# Altium footprint library Common.PcbLib: 39 footprints (part 2 of 3)
Each footprint in its own frame and in the unit in brackets; x right, y up, seen from the top. Pads: shape width x height; smd on the part's side, far side on the other; paste and mask are expansions set on the pad; w line width, h text height; cw(c..) or ccw(c..) is an arc to the next point about the centre after c.
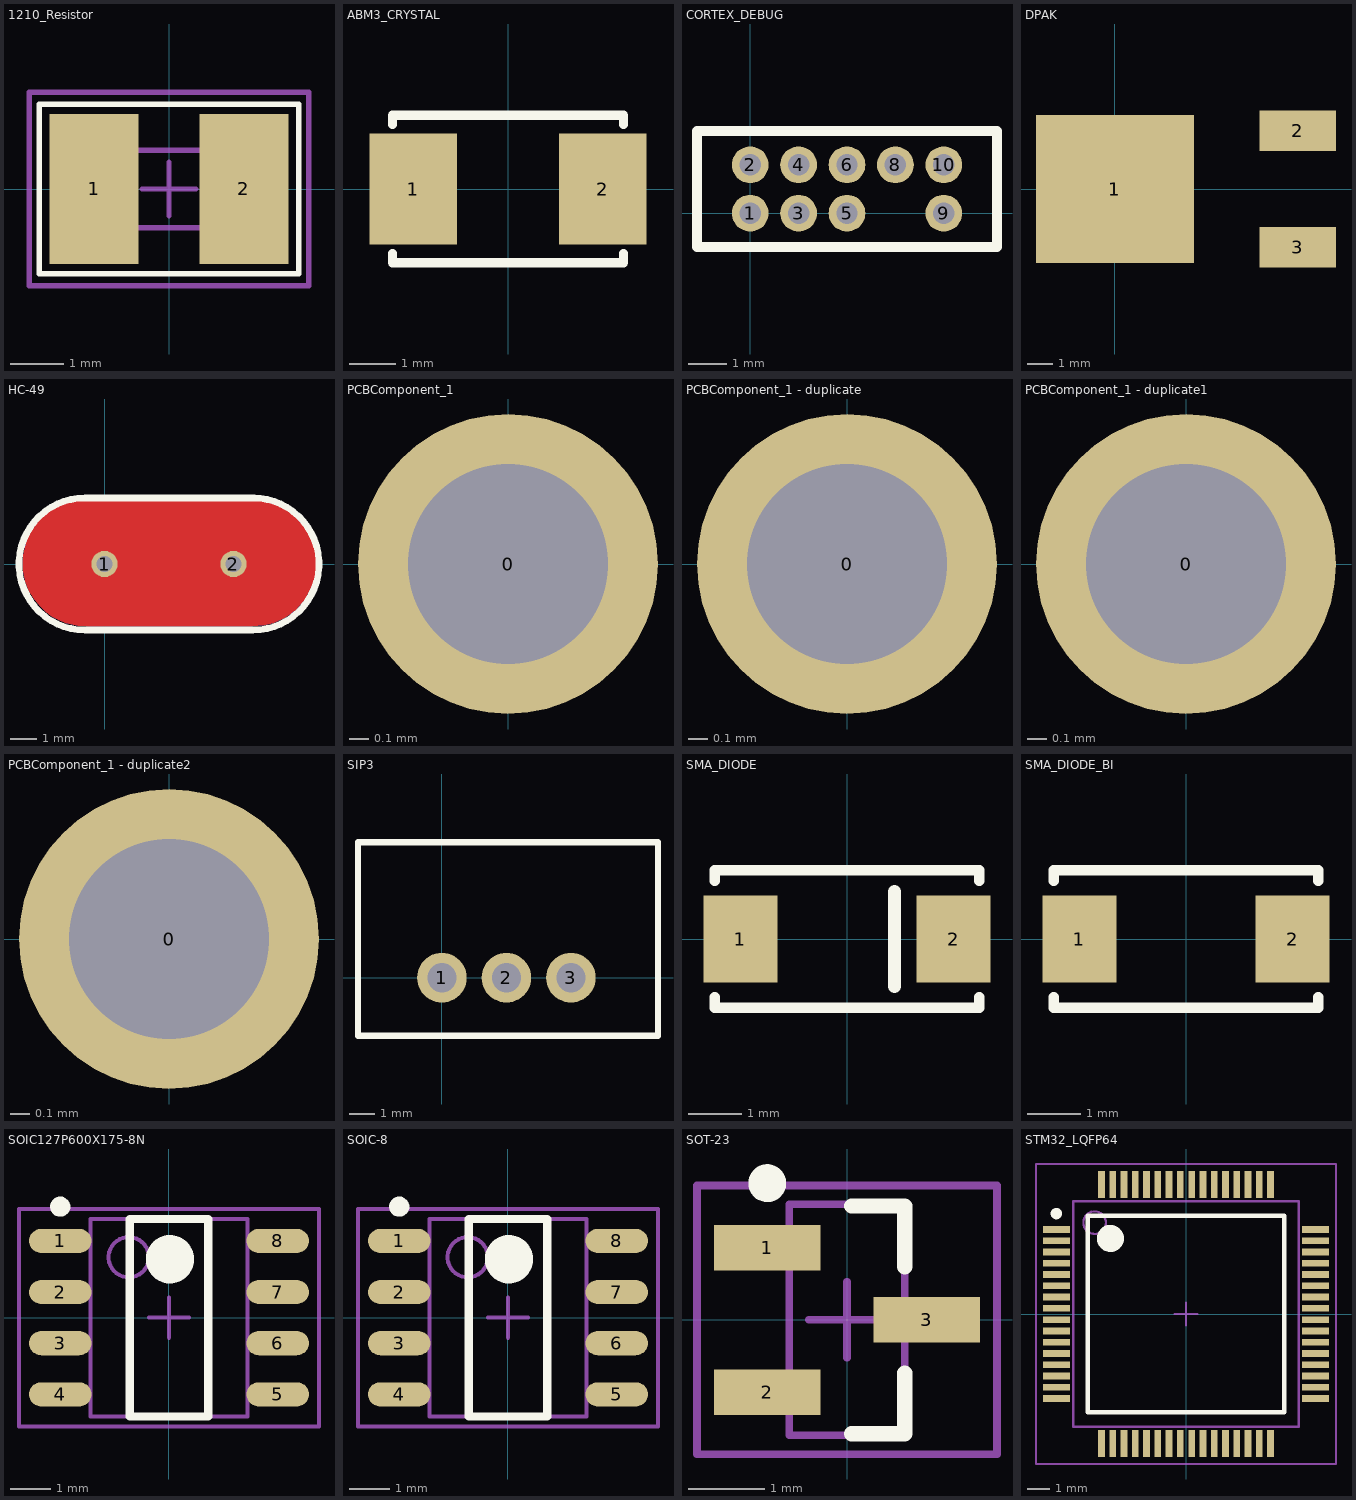
[diagram p1: the footprints below, top view; thin cyan lines are the x and y axes]

## 1210_Resistor [mil] "1210 Resistor"
height 43.31
pads (2):
  rect 65x110 smd: 1(-55,0) 2(55,0)
Top Overlay:
  lines w4: -95,-62 -95,62 95,62 95,-62 -95,-62
Mechanical 13:
  lines w3.94: -43.31,-28.54 -43.31,28.54 43.31,28.54 43.31,-28.54 -43.31,-28.54
Mechanical 15:
  lines w3.94: -19.68,0 19.69,0 ; 0,-19.68 0,19.69 ; -102.36,-70.87 -102.36,70.87 102.36,70.87 102.36,-70.87 -102.36,-70.87

## ABM3_CRYSTAL [mm] "ABM3  Ceramic Crystal"
height 1.3
pads (2):
  rect 1.9x2.4 smd: 1(-2.05,0) 2(2.05,0)
Top Overlay:
  lines w0.2: -2.5,-1.4 -2.5,-1.6 2.5,-1.6 2.5,-1.4 ; -2.5,1.4 -2.5,1.6 2.5,1.6 2.5,1.4
3D body "ABM3.STEP": height 1.32, standoff 0.01, extent -2.5,-1.6 2.5,1.6

## CORTEX_DEBUG [mil]
pads (9):
  round 38 hole 22: 1(0,0) 2(0,50) 3(50,0) 4(50,50) 5(100,0) 6(100,50) 8(150,50) 9(200,0) 10(200,50)
Top Overlay:
  lines w10: -55,-35 -55,85 255,85 255,-35 -55,-35
3D body "FTSH-105-01-X-D-K.step": height 230.5, standoff -84.5, extent -27,-61 223,114

## DPAK [mm]
pads (3):
  rect 6.2x5.8 smd: 1(0,0)
  rect 3x1.6 smd: 2(7.18,2.285) 3(7.18,-2.285)
3D body "dpak.stp": height 2.3, standoff 0, extent -2,-3.25 7.5,3.25

## HC-49 [mm]
pads (2):
  round 1 hole 0.6: 1(0,0) 2(4.88,0)
Top Layer:
  pour cut-out: -2.591,1.499 -2.388,1.727 -2.235,1.854 -1.981,2.057 -1.727,2.184 -1.448,2.311 -1.067,2.388 -0.787,2.413 5.766,2.413 6.172,2.337 6.579,2.21 6.909,2.032 7.239,1.778 7.595,1.372 7.849,0.914 7.976,0.533 8.026,0.127 8.026,-0.178 7.95,-0.559 7.772,-0.991 7.569,-1.346 7.188,-1.778 6.858,-2.007 6.375,-2.235 6.02,-2.311 5.588,-2.362 -0.686,-2.362 -1.016,-2.337 -1.27,-2.286 -1.502,-2.216 -1.753,-2.108 -2.007,-1.981 -2.21,-1.829 -2.438,-1.6 -2.642,-1.346 -2.87,-1.016 -2.997,-0.66 -3.073,-0.279 -3.099,0.025 -3.073,0.33 -3.023,0.584 -2.946,0.889 -2.819,1.118 -2.718,1.295
Bottom Layer:
  pour cut-out: 7.518,1.499 7.315,1.727 7.163,1.854 6.909,2.057 6.655,2.184 6.375,2.311 5.994,2.388 5.715,2.413 -0.838,2.413 -1.245,2.337 -1.651,2.21 -1.981,2.032 -2.311,1.778 -2.667,1.372 -2.921,0.914 -3.048,0.533 -3.099,0.127 -3.099,-0.178 -3.023,-0.559 -2.845,-0.991 -2.642,-1.346 -2.261,-1.778 -1.93,-2.007 -1.448,-2.235 -1.092,-2.311 -0.66,-2.362 5.613,-2.362 5.944,-2.337 6.198,-2.286 6.43,-2.216 6.68,-2.108 6.934,-1.981 7.137,-1.829 7.366,-1.6 7.569,-1.346 7.798,-1.016 7.925,-0.66 8.001,-0.279 8.026,0.025 8.001,0.33 7.95,0.584 7.874,0.889 7.747,1.118 7.645,1.295
Top Overlay:
  lines w0.254: -0.737,2.5 5.664,2.5 ; -0.735,-2.5 cw(c-0.735,0) -0.735,2.5 ; -0.711,-2.5 5.613,-2.5 ; 5.615,-2.5 ccw(c5.615,0) 5.615,2.5
3D body "hc49.stp": height 3.3, standoff -0.76, extent -3.251,-1.778 8.099,1.872

## PCBComponent_1 [mil]
pads (1):
  round 60 hole 40: 0(0,0)

## PCBComponent_1 - duplicate [mil]
pads (1):
  round 60 hole 40: 0(0,0)

## PCBComponent_1 - duplicate1 [mil]
pads (1):
  round 60 hole 40: 0(0,0)

## PCBComponent_1 - duplicate2 [mil]
pads (1):
  round 60 hole 40: 0(0,0)

## SIP3 [mm]
pads (3):
  oval 1.95x1.96 hole 1.15: 1(0,0) 2(2.54,0) 3(5.08,0)
Top Overlay:
  lines w0.254: -3.302,-2.286 8.509,-2.286 8.509,5.334 -3.302,5.334 -3.302,-2.286
3D body: height 10.2, standoff 0, extent -3.463,-2.25 8.662,5.3

## SMA_DIODE [mm] "DO-214AC SMA Dode Footprint"
pads (2):
  rect 1.4x1.64 smd: 1(-2.015,0) 2(2.015,0)
Top Overlay:
  lines w0.2: -2.5,-1.1 -2.5,-1.3 2.5,-1.3 2.5,-1.1 ; -2.5,1.1 -2.5,1.3 2.5,1.3 2.5,1.1
  lines w0.25: 0.9,-0.9 0.9,0.9
3D body "User Library-SMAJ.step": height 2.01, standoff 0.01, extent -2.465,-1.24 2.465,1.3

## SMA_DIODE_BI [mm]
pads (2):
  rect 1.4x1.64 smd: 1(-2.015,0) 2(2.015,0)
Top Overlay:
  lines w0.2: -2.5,-1.1 -2.5,-1.3 2.5,-1.3 2.5,-1.1 ; -2.5,1.1 -2.5,1.3 2.5,1.3 2.5,1.1
3D body "User Library-SMAJ.step": height 2.01, standoff 0.01, extent -2.465,-1.24 2.465,1.3

## SOIC127P600X175-8N [mm] "SOIC, 8-Leads, Body 4.9x3.9mm (max), Pitch 1.27mm, IPC Medium Density"
height 1.75
pads (8):
  oval 1.55x0.6 smd: 1(-2.7,1.905) 2(-2.7,0.635) 3(-2.7,-0.635) 4(-2.7,-1.905) 5(2.7,-1.905) 6(2.7,-0.635) 7(2.7,0.635) 8(2.7,1.905)
Top Overlay:
  circle w0.6: c0.025,1.45 r0.3
  circle w0.25: c-2.7,2.755 r0.125
  lines w0.2: -0.975,-2.45 0.975,-2.45 0.975,2.45 -0.975,2.45 -0.975,-2.45
Mechanical 13:
  circle w0.1: c-1,1.5 r0.5
  lines w0.1: -1.95,-2.45 1.95,-2.45 1.95,2.45 -1.95,2.45 -1.95,-2.45
Mechanical 15:
  lines w0.1: -0.5,0 0.5,0 ; 0,-0.5 0,0.5 ; -3.725,-2.7 3.725,-2.7 3.725,2.7 -3.725,2.7 -3.725,-2.7
3D body "so8.stp": height 1.55, standoff 0, extent -3.023,-2.464 2.977,2.479

## SOIC-8 [mm] "SOIC, 8-Leads, Body 4.9x3.9mm (max), Pitch 1.27mm, IPC Medium Density"
height 1.75
pads (8):
  oval 1.55x0.6 smd: 1(-2.7,1.905) 2(-2.7,0.635) 3(-2.7,-0.635) 4(-2.7,-1.905) 5(2.7,-1.905) 6(2.7,-0.635) 7(2.7,0.635) 8(2.7,1.905)
Top Overlay:
  circle w0.6: c0.025,1.45 r0.3
  circle w0.25: c-2.7,2.755 r0.125
  lines w0.2: -0.975,-2.45 0.975,-2.45 0.975,2.45 -0.975,2.45 -0.975,-2.45
Mechanical 13:
  circle w0.1: c-1,1.5 r0.5
  lines w0.1: -1.95,-2.45 1.95,-2.45 1.95,2.45 -1.95,2.45 -1.95,-2.45
Mechanical 15:
  lines w0.1: -0.5,0 0.5,0 ; 0,-0.5 0,0.5 ; -3.725,-2.7 3.725,-2.7 3.725,2.7 -3.725,2.7 -3.725,-2.7
3D body "so8.stp": height 1.55, standoff 0, extent -3.023,-2.464 2.977,2.479

## SOT-23 [mm] "SOT23, 3-Leads, Body 3.0x2.7mm (max), Pitch 0.95mm, IPC Medium Density"
height 1.12
pads (3):
  rect 1.4x0.6 smd: 1(-1.05,0.95) 2(-1.05,-0.95) 3(1.05,0)
Top Overlay:
  circle w0.25: c-1.05,1.8 r0.125
  lines w0.2: 0.06,-1.5 0.76,-1.5 0.76,-0.7 ; 0.06,1.5 0.76,1.5 0.76,0.7
Mechanical 13:
  lines w0.1: -0.76,-1.52 -0.76,1.52 0.76,1.52 0.76,-1.52 -0.76,-1.52
Mechanical 15:
  lines w0.1: -0.5,0 0.5,0 ; 0,-0.5 0,0.5 ; -1.975,-1.77 -1.975,1.77 1.975,1.77 1.975,-1.77 -1.975,-1.77
3D body "sot-23.stp": height 1.1, standoff 0, extent -1.21,-1.1 0.991,1.1

## STM32_LQFP64 [mm] "TSQFP, 64-Leads, Body 12.0x12.0mm (max), Pitch 0.50mm, IPC Medium Density"
height 1.6
pads (64):
  rect 1.2x0.3 smd: 1(-5.75,3.75) 2(-5.75,3.25) 3(-5.75,2.75) 4(-5.75,2.25) 5(-5.75,1.75) 6(-5.75,1.25) 7(-5.75,0.75) 8(-5.75,0.25) 9(-5.75,-0.25) 10(-5.75,-0.75) 11(-5.75,-1.25) 12(-5.75,-1.75) 13(-5.75,-2.25) 14(-5.75,-2.75) 15(-5.75,-3.25) 16(-5.75,-3.75) 33(5.75,-3.75) 34(5.75,-3.25) 35(5.75,-2.75) 36(5.75,-2.25) 37(5.75,-1.75) 38(5.75,-1.25) 39(5.75,-0.75) 40(5.75,-0.25) 41(5.75,0.25) 42(5.75,0.75) 43(5.75,1.25) 44(5.75,1.75) 45(5.75,2.25) 46(5.75,2.75) 47(5.75,3.25) 48(5.75,3.75)
  rect 0.3x1.2 smd: 17(-3.75,-5.75) 18(-3.25,-5.75) 19(-2.75,-5.75) 20(-2.25,-5.75) 21(-1.75,-5.75) 22(-1.25,-5.75) 23(-0.75,-5.75) 24(-0.25,-5.75) 25(0.25,-5.75) 26(0.75,-5.75) 27(1.25,-5.75) 28(1.75,-5.75) 29(2.25,-5.75) 30(2.75,-5.75) 31(3.25,-5.75) 32(3.75,-5.75) 49(3.75,5.75) 50(3.25,5.75) 51(2.75,5.75) 52(2.25,5.75) 53(1.75,5.75) 54(1.25,5.75) 55(0.75,5.75) 56(0.25,5.75) 57(-0.25,5.75) 58(-0.75,5.75) 59(-1.25,5.75) 60(-1.75,5.75) 61(-2.25,5.75) 62(-2.75,5.75) 63(-3.25,5.75) 64(-3.75,5.75)
Top Overlay:
  circle w0.25: c-5.75,4.45 r0.125
  circle w0.6: c-3.35,3.35 r0.3
  lines w0.2: -4.35,-4.35 -4.35,4.35 4.35,4.35 4.35,-4.35 -4.35,-4.35
Mechanical 13:
  circle w0.1: c-4.05,4.05 r0.5
  lines w0.1: -5,-5 -5,5 5,5 5,-5 -5,-5
Mechanical 15:
  lines w0.1: -0.5,0 0.5,0 ; 0,-0.5 0,0.5 ; -6.65,-6.65 -6.65,6.65 6.65,6.65 6.65,-6.65 -6.65,-6.65
3D body "User Library-LQFP64_Grid_0_5.STEP": height 1.6, standoff 0, extent -5.994,-6 6.006,6